# EAGLE library part DVR2510 (library Sensors)
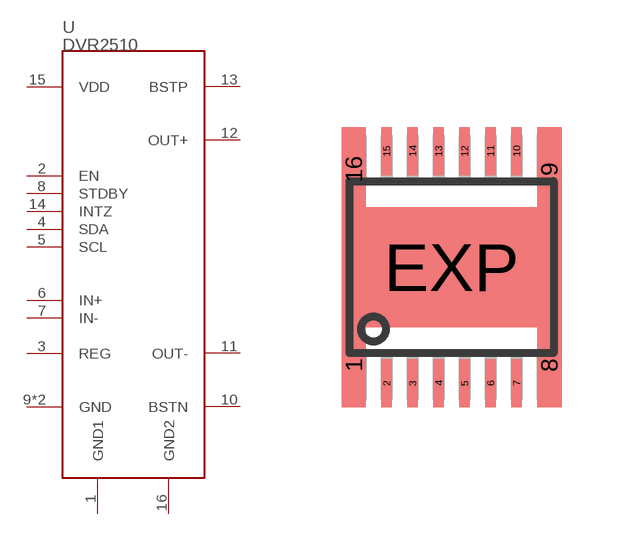
[diagram p1: symbol with the pads of HTSSOP16PWP; footprint HTSSOP16PWP]

Designator prefix -

## DVR2510  [HTSSOP16PWP]
1  GND1
2  EN
3  REG
4  SDA
5  SCL
6  IN+
7  IN-
8  STDBY
9  GND
10  BSTN
11  OUT-
12  OUT+
13  BSTP
14  INTZ
15  VDD
16  GND2
EXP  GND

## Footprint HTSSOP16PWP (pad centres in mm)
TPS40055PWP (R-PDSO-G**) PowerPAD (TM) 16 pol. PLASTIC SMALL-OUTLINE PACKAGE Source: www.ti.com ... TPS40055 package.pdf & slma002.pdf
smd 0.61 x 2.1: 1 -2.445,-2.45; 8 2.445,-2.45; 9 2.445,2.45; 16 -2.445,2.45
smd 0.27 x 1.2: 2 -1.625,-2.9; 3 -0.975,-2.9; 4 -0.325,-2.9; 5 0.325,-2.9; 6 0.975,-2.9; 7 1.625,-2.9; 10 1.625,2.9; 11 0.975,2.9; 12 0.325,2.9; 13 -0.325,2.9; 14 -0.975,2.9; 15 -1.625,2.9
smd 5.5 x 3: EXP 0,0